# Altium schematic symbol library 691 201 520 0xx.SchLib: 2 symbols
Pins are listed as number, name and electrical type; pins without a type are passive.

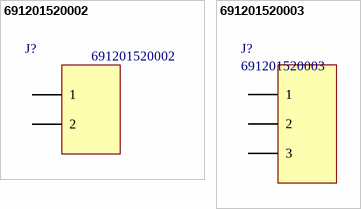
[diagram p0: symbols 691201520002 to 691201520003]

## 691201520002
designator J?
45¡ã Cable Entry with Rising Cage Clamp, Serie 2015 - 5.08 mm; Manufacturer: Wurth Elektronik; ComponentLink1 Description: Manufacturer; ComponentLink2 Description: Datasheet; NoPins: 2; ComponentLink1 URL: http://www.we-online.com; ComponentLink2 URL: http://katalog.we-online.de/em/datasheet/6912015200xx.pdf; Created By: Baojun Chen; Created Date: 6-Aug-15; PartNo: 691201520002; Value: 691201520002
footprint 691201520002 (Serie 2015 - 5.08 mm _ 2 pins)
pins: 1, 2

## 691201520003
designator J?
45¡ã Cable Entry with Rising Cage Clamp, Serie 2015 - 5.08 mm; Manufacturer: Wurth Elektronik; ComponentLink1 Description: Manufacturer; ComponentLink2 Description: Datasheet; NoPins: 3; ComponentLink1 URL: http://www.we-online.com; ComponentLink2 URL: http://katalog.we-online.de/em/datasheet/6912015200xx.pdf; Created By: Baojun Chen; Created Date: 6-Aug-15; PartNo: 691201520003; Value: 691201520003
footprint 691201520003 (Serie 2015 - 5.08 mm _ 3 pins)
pins: 1, 2, 3